# EAGLE library part ATTINY20-SSU (library attiny20)
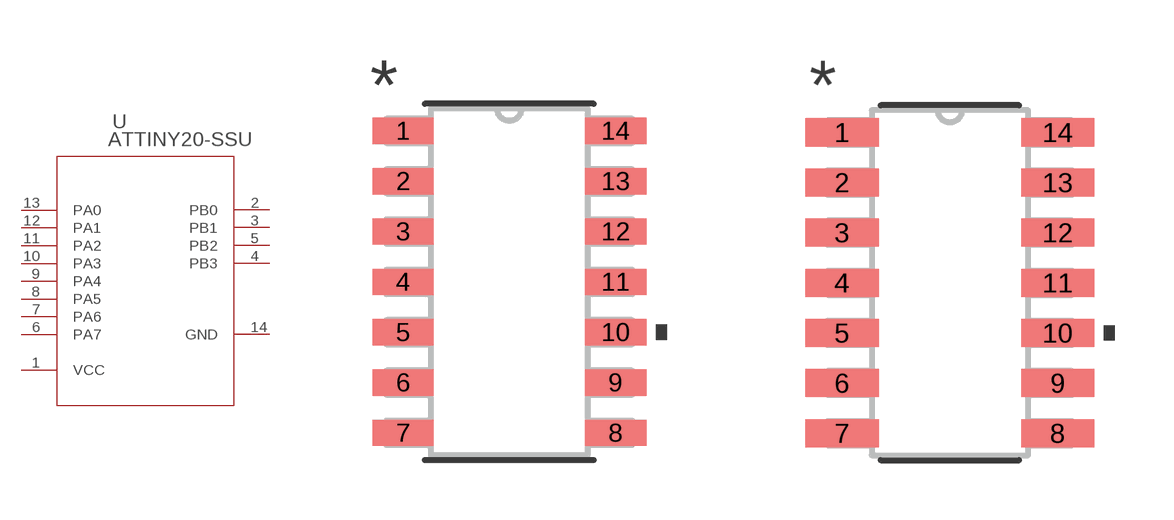
[diagram p0: symbol with the pads of 14S1; footprints 14S1, 14S1-M]

Designator prefix U

## ATTINY20-SSU (MANUFACTURER_PART_NUMBER: ATTINY20SSU; VENDOR: Atmel)  [14S1]
1  VCC  pas
2  PB0  pas
3  PB1  pas
4  PB3  pas
5  PB2  pas
6  PA7  pas
7  PA6  pas
8  PA5  pas
9  PA4  pas
10  PA3  pas
11  PA2  pas
12  PA1  pas
13  PA0  pas
14  GND  pas

## ATTINY20-SSU14S1-M (MANUFACTURER_PART_NUMBER: ATTINY20SSU; VENDOR: Atmel)  [14S1-M]
Pads as for 14S1

## ATTINY20-SSU14S1-L (MANUFACTURER_PART_NUMBER: ATTINY20SSU; VENDOR: Atmel)  [14S1-L]
Pads as for 14S1

## Footprint 14S1 (pad centres in mm)
smd 1.549 x 0.66: 1 -2.68,3.81; 2 -2.68,2.54; 3 -2.68,1.27; 4 -2.68,0; 5 -2.68,-1.27; 6 -2.68,-2.54; 7 -2.68,-3.81; 8 2.68,-3.81; 9 2.68,-2.54; 10 2.68,-1.27; 11 2.68,0; 12 2.68,1.27; 13 2.68,2.54; 14 2.68,3.81

## Footprint 14S1-M (pad centres in mm)
smd 1.854 x 0.711: 1 -2.731,3.81; 2 -2.731,2.54; 3 -2.731,1.27; 4 -2.731,0; 5 -2.731,-1.27; 6 -2.731,-2.54; 7 -2.731,-3.81; 8 2.731,-3.81; 9 2.731,-2.54; 10 2.731,-1.27; 11 2.731,0; 12 2.731,1.27; 13 2.731,2.54; 14 2.731,3.81

## Footprint 14S1-L (pad centres in mm)
smd 1.245 x 0.61: 1 -2.629,3.81; 2 -2.629,2.54; 3 -2.629,1.27; 4 -2.629,0; 5 -2.629,-1.27; 6 -2.629,-2.54; 7 -2.629,-3.81; 8 2.629,-3.81; 9 2.629,-2.54; 10 2.629,-1.27; 11 2.629,0; 12 2.629,1.27; 13 2.629,2.54; 14 2.629,3.81